# Altium schematic symbol library AI-1027-TWT-3V-R.SchLib: 1 symbol
Pins are listed as number, name and electrical type; pins without a type are passive.

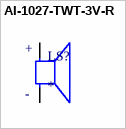
[diagram p0: symbol AI-1027-TWT-3V-R]

## AI-1027-TWT-3V-R
designator LS?
AUDIO INDICATOR 3VDC 30MA 80DBA 2700HZ; MF: PUI Audio; MP: AI-1027-TWT-3V-R; SnapEDA_Link: https://www.snapeda.com/parts/AI-1027-TWT-3V-R/PUI+Audio%252C+Inc./view-part/?ref=snap; Package: None; Value: *; Check_prices: https://www.snapeda.com/parts/AI-1027-TWT-3V-R/PUI+Audio%252C+Inc./view-part/?ref=eda
footprint XDCR_AI-1027-TWT-3V-R
pins: N, P
text: +; -